# Altium footprint library MIC842NYMT-T5.PcbLib: 3 footprints
Each footprint in its own frame and in the unit in brackets; x right, y up, seen from the top. Pads: shape width x height; smd on the part's side, far side on the other; paste and mask are expansions set on the pad; w line width, h text height; cw(c..) or ccw(c..) is an arc to the next point about the centre after c.
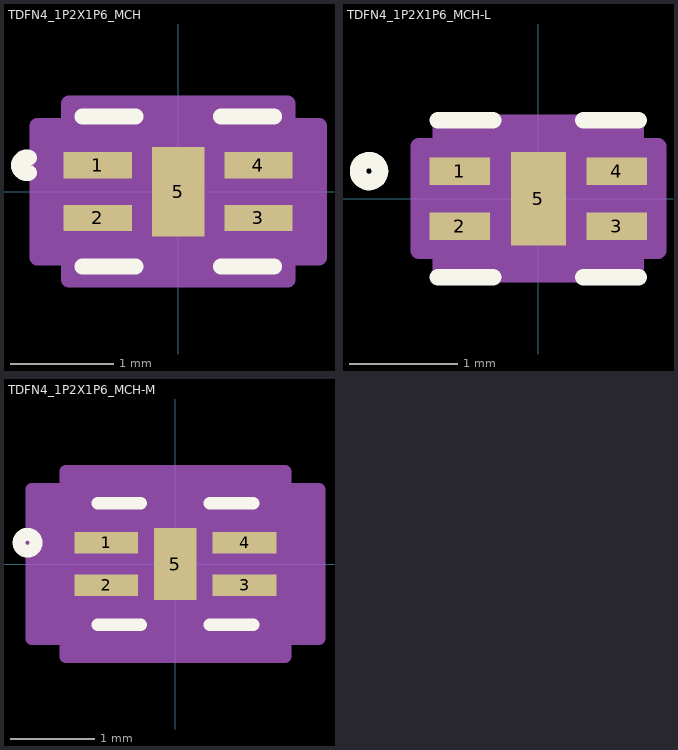
[diagram p0: the footprints below, top view; thin cyan lines are the x and y axes]

## TDFN4_1P2X1P6_MCH [mil]
pads (5):
  rect 26x10 smd paste+0 mask+0: 1(-30.5,10) 2(-30.5,-10) 3(30.5,-10) 4(30.5,10)
  rect 20x34 smd paste+0 mask+0: 5(0,0)
Top Overlay:
  lines w6: -56.6,7.14 cw(c-57.5,10) -56.6,12.86 ; -36.5,-28.5 -16.27,-28.5 ; -36.5,28.5 -16.27,28.5 ; 16.27,-28.5 36.5,-28.5 ; 16.27,28.5 36.5,28.5
Mechanical 13:
  lines w0: -12,23.5 ccw(c0,23.5) 12,23.5
  lines w1: -31.5,-23.5 -31.5,23.5 31.5,23.5 31.5,-23.5 -31.5,-23.5
Mechanical 15:
  region: -41.5,-25 -53.5,-25 -53.5,25 -41.5,25 -41.5,33.5 41.5,33.5 41.5,25 53.5,25 53.5,-25 41.5,-25 41.5,-33.5 -41.5,-33.5
  lines w6: -53.5,-25 -41.5,-25 -41.5,-33.5 41.5,-33.5 41.5,-25 53.5,-25 53.5,25 41.5,25 41.5,33.5 -41.5,33.5 -41.5,25 -53.5,25 -53.5,-25
3D body "TDFN4_1P2X1P6_MCH.step": height 22.09, standoff 0, extent -31.5,-23.5 31.5,23.5
3D body "TDFN4_1P2X1P6_MCH.step": height 22.09, standoff 0, extent -31.5,-23.5 31.5,23.5

## TDFN4_1P2X1P6_MCH-L [mil]
pads (5):
  rect 22x10 smd paste+0 mask+0: 1(-28.5,10) 2(-28.5,-10) 3(28.5,-10) 4(28.5,10)
  rect 20x34 smd paste+0 mask+0: 5(0,0)
Top Overlay:
  circle w6: c-61.5,10 r4
  lines w6: -36.5,-28.5 -16.27,-28.5 ; -36.5,28.5 -16.27,28.5 ; 16.27,-28.5 36.5,-28.5 ; 16.27,28.5 36.5,28.5
Mechanical 13:
  circle w0: c-17.5,10 r3
  lines w0: -12,23.5 ccw(c0,23.5) 12,23.5
  lines w1: -31.5,-23.5 31.5,-23.5 31.5,23.5 -31.5,23.5 -31.5,-23.5
Mechanical 15:
  region: -35.5,-19 -43.5,-19 -43.5,19 -35.5,19 -35.5,27.5 35.5,27.5 35.5,19 43.5,19 43.5,-19 35.5,-19 35.5,-27.5 -35.5,-27.5
  lines w6: -43.5,-19 -43.5,19 -35.5,19 -35.5,27.5 35.5,27.5 35.5,19 43.5,19 43.5,-19 35.5,-19 35.5,-27.5 -35.5,-27.5 -35.5,-19 -43.5,-19
3D body "TDFN4_1P2X1P6_MCH.step": height 22.09, standoff 0, extent -31.5,-23.5 31.5,23.5

## TDFN4_1P2X1P6_MCH-M [mil]
pads (5):
  rect 30x10 smd paste+0 mask+0: 1(-32.5,10) 2(-32.5,-10) 3(32.5,-10) 4(32.5,10)
  rect 20x34 smd paste+0 mask+0: 5(0,0)
Top Overlay:
  circle w6: c-69.5,10 r4
  lines w6: -36.5,-28.5 -16.27,-28.5 ; -36.5,28.5 -16.27,28.5 ; 16.27,-28.5 36.5,-28.5 ; 16.27,28.5 36.5,28.5
Mechanical 13:
  circle w0: c-17.5,10 r3
  lines w0: -12,23.5 ccw(c0,23.5) 12,23.5
  lines w1: -31.5,-23.5 31.5,-23.5 31.5,23.5 -31.5,23.5 -31.5,-23.5
Mechanical 15:
  region: -51.5,-35 -67.5,-35 -67.5,35 -51.5,35 -51.5,43.5 51.5,43.5 51.5,35 67.5,35 67.5,-35 51.5,-35 51.5,-43.5 -51.5,-43.5
  lines w6: -67.5,-35 -67.5,35 -51.5,35 -51.5,43.5 51.5,43.5 51.5,35 67.5,35 67.5,-35 51.5,-35 51.5,-43.5 -51.5,-43.5 -51.5,-35 -67.5,-35
3D body "TDFN4_1P2X1P6_MCH.step": height 22.09, standoff 0, extent -31.5,-23.5 31.5,23.5